# EAGLE library part LT3504IUFDPBF (library LT3504IUFDPBF)
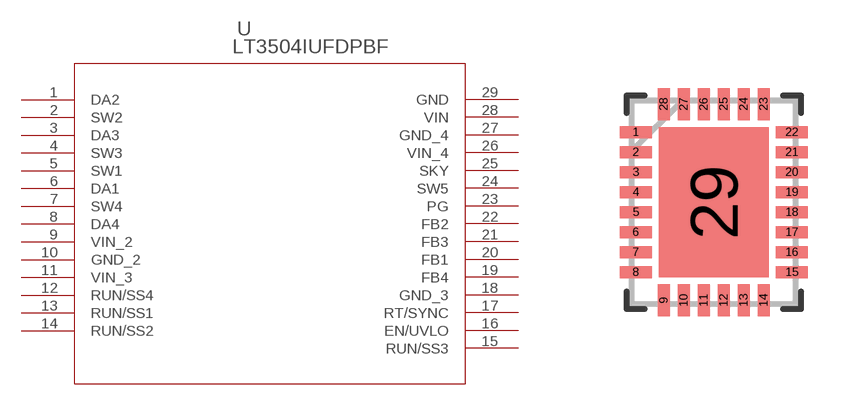
[diagram p0: symbol with the pads of QFN-28_UFD; footprint QFN-28_UFD]

Designator prefix U

## LT3504IUFDPBF (Description: LT3504 - Quad 40V/1A Step-Down Switching Regulator with 100% Duty Cycle Operation; Digi-Key_Part_Number: LT3504IUFD#PBF-ND; Digi-Key_Purchase_URL: https://www.digikey.com/product-detail/en/linear-technology-analog-devices/LT3504IUFD-PBF/LT3504IUFD-PBF-ND/3481904?utm_source=snapeda&utm_medium=aggregator&utm_campaign=symbol; MF: Linear Technology; MP: LT3504IUFD#PBF; Package: QFN-28 Linear Technology)  [QFN-28_UFD]
1  DA2  pas
2  SW2  out
3  DA3  pas
4  SW3  out
5  SW1  out
6  DA1  pas
7  SW4  out
8  DA4  pas
9  VIN_2  in
10  GND_2  pwr
11  VIN_3  in
12  RUN/SS4  out
13  RUN/SS1  out
14  RUN/SS2  out
15  RUN/SS3  out
16  EN/UVLO
17  RT/SYNC
18  GND_3  pwr
19  FB4  out
20  FB1  out
21  FB3  out
22  FB2  out
23  PG  out
24  SW5  pas
25  SKY  out
26  VIN_4  in
27  GND_4  pwr
28  VIN  in
29  GND  pwr

## Footprint QFN-28_UFD (pad centres in mm)
smd 0.805 x 0.3: 1 -1.952,1.75; 2 -1.952,1.25; 3 -1.952,0.75; 4 -1.952,0.25; 5 -1.952,-0.25; 6 -1.952,-0.75; 7 -1.952,-1.25; 8 -1.952,-1.75; 15 1.952,-1.75; 16 1.952,-1.25; 17 1.952,-0.75; 18 1.952,-0.25; 19 1.952,0.25; 20 1.952,0.75; 21 1.952,1.25; 22 1.952,1.75
smd 0.3 x 0.805: 9 -1.25,-2.452; 10 -0.75,-2.452; 11 -0.25,-2.452; 12 0.25,-2.452; 13 0.75,-2.452; 14 1.25,-2.452; 23 1.25,2.452; 24 0.75,2.452; 25 0.25,2.452; 26 -0.25,2.452; 27 -0.75,2.452; 28 -1.25,2.452
smd 2.75 x 3.75: 29 0,0